# Altium footprint library RCDQLY.PCBLIB: 122 footprints (part 6 of 8)
Each footprint in its own frame and in the unit in brackets; x right, y up, seen from the top. Pads: shape width x height; smd on the part's side, far side on the other; paste and mask are expansions set on the pad; w line width, h text height; cw(c..) or ccw(c..) is an arc to the next point about the centre after c.
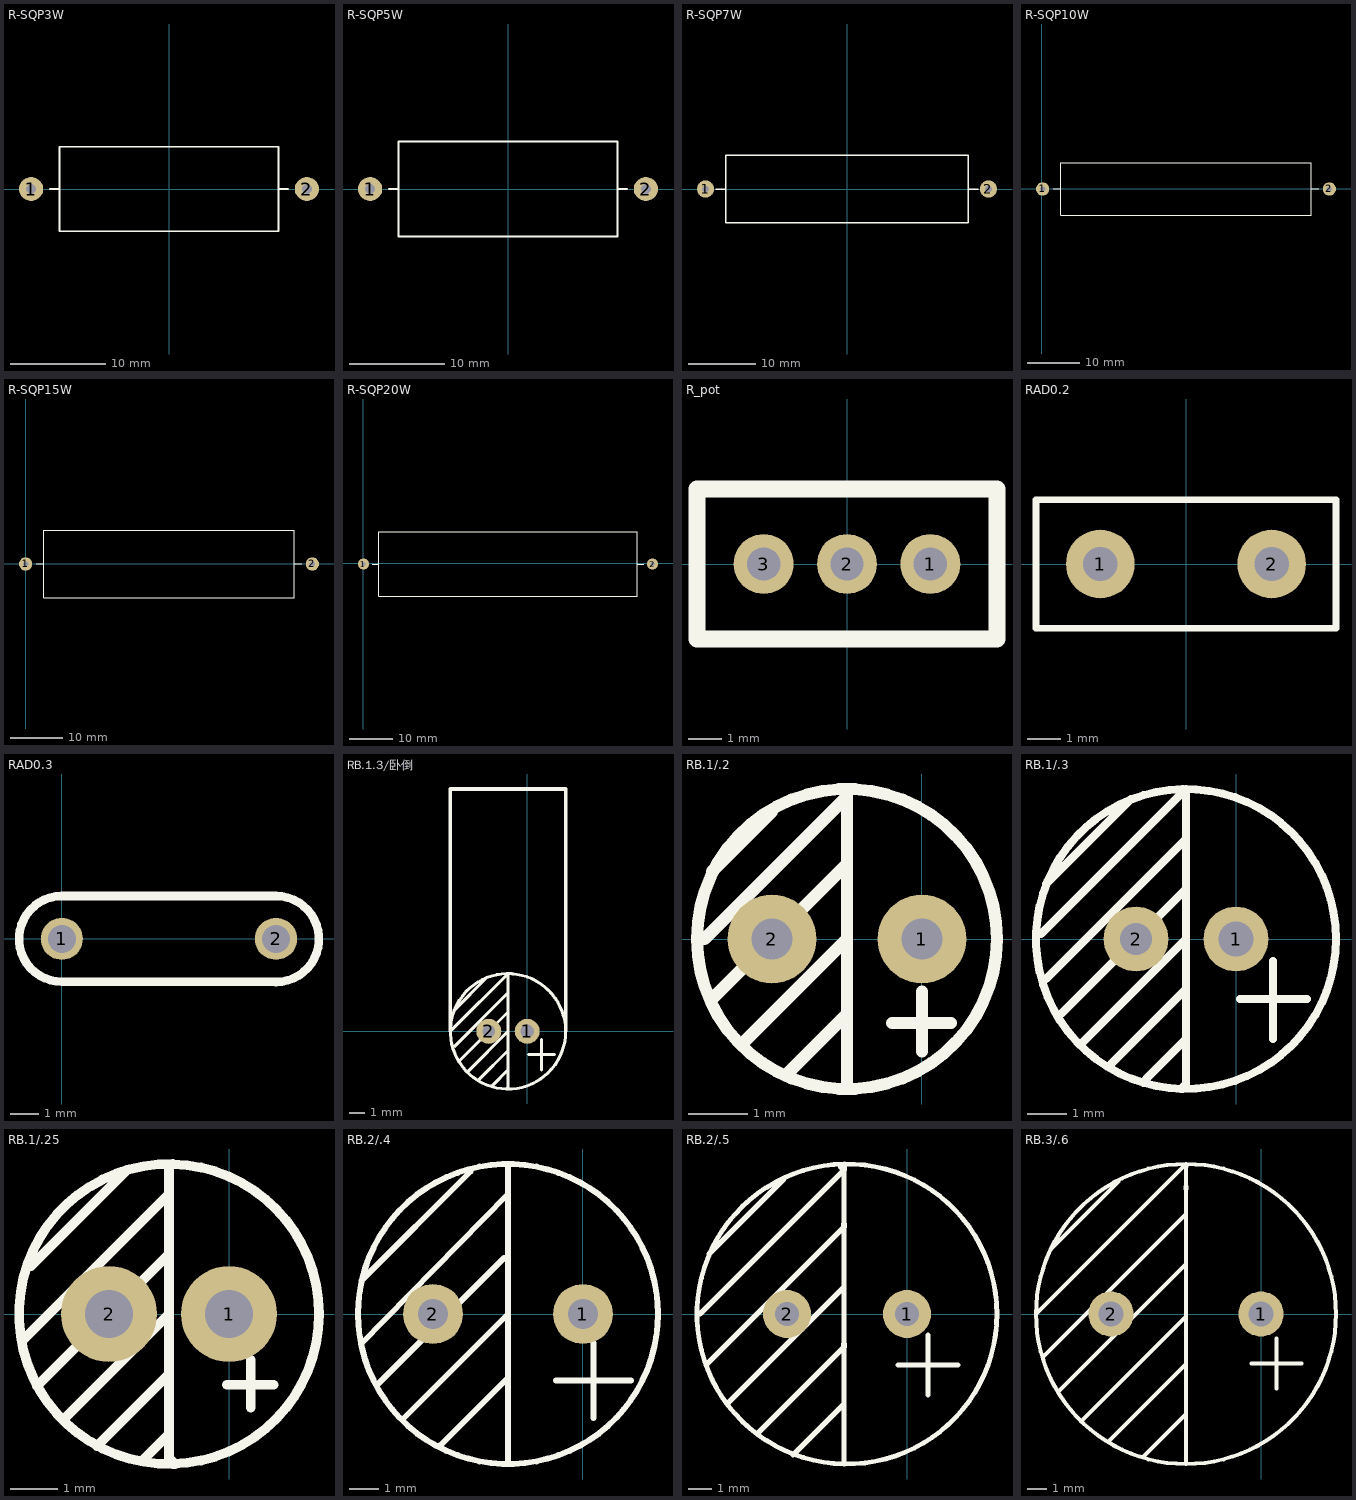
[diagram p5: the footprints below, top view; thin cyan lines are the x and y axes]

## R-SQP3W [mm]
pads (2):
  round 2.54 hole 1.016: 1(-14.5,0) 2(14.5,0)
TopOverlay:
  lines w0.203: -12.5,0 -11.5,0 ; 11.5,0 12.5,0 ; -11.5,-4.445 11.5,-4.445 11.5,4.445 -11.5,4.445 -11.5,-4.445

## R-SQP5W [mm]
pads (2):
  round 2.54 hole 1.016: 1(-14.5,0) 2(14.5,0)
TopOverlay:
  lines w0.203: -12.5,0 -11.5,0 ; 11.5,0 12.5,0 ; -11.5,-5 -11.5,5 11.5,5 11.5,-5 -11.5,-5

## R-SQP7W [mm]
pads (2):
  round 2.54 hole 1.016: 1(-21,0) 2(21,0)
TopOverlay:
  lines w0.203: -19.5,0 -18,0 ; 18,0 19.5,0 ; -18,-5 18,-5 18,5 -18,5 -18,-5

## R-SQP10W [mil]
pads (2):
  round 100 hole 40: 1(4.82,-2.5) 2(2170.18,-2.5)
TopOverlay:
  lines w8: 83.56,-2.5 142.62,-2.5 ; 2032.38,-2.5 2091.44,-2.5 ; 142.62,-199.35 142.62,194.35 2032.38,194.35 2032.38,-199.35 142.62,-199.35

## R-SQP15W [mil]
pads (2):
  round 100 hole 40: 1(-0.18,-2.5) 2(2165.18,-2.5)
TopOverlay:
  lines w8: 78.56,-2.5 137.62,-2.5 ; 2027.38,-2.5 2086.44,-2.5 ; 137.62,-258.41 137.62,253.41 2027.38,253.41 2027.38,-258.41 137.62,-258.41

## R-SQP20W [mil]
pads (2):
  round 100 hole 40: 1(3.6,-5) 2(2641.4,-5)
TopOverlay:
  lines w8: 82.34,-5 141.4,-5 ; 2503.6,-5 2562.66,-5 ; 141.4,-300.28 141.4,290.28 2503.6,290.28 2503.6,-300.28 141.4,-300.28

## R_pot [mm]
pads (3):
  round 1.8 hole 1: 1(2.5,0) 2(0,0) 3(-2.5,0)
TopOverlay:
  lines w0.5: -4.5,-2.25 4.5,-2.25 4.5,-0.5 4.5,2.25 -4.5,2.25 -4.5,-0.5 -4.5,-2.25

## RAD0.2 [mil]
pads (2):
  round 80 hole 40: 1(-100,0) 2(100,0)
TopOverlay:
  lines w8: -175,-75 175,-75 175,75 -175,75 -175,-75

## RAD0.3 [mm]
pads (2):
  round 1.5 hole 1: 1(0,0) 2(7.62,0)
TopOverlay:
  lines w0.305: 7.62,-1.536 ccw(c7.62,-0.006) 7.62,1.524 0,1.524 ccw(c0,0) 0,-1.524 7.62,-1.524

## RB.1.3/卧倒 [mil]
pads (2):
  round 65 hole 35: 1(0,0)
  round 65 hole 32: 2(-100,0)
TopOverlay:
  circle w8: c-50,0 r150
  lines w8: -195,5 -50,150 -50,-145 -55,-150 ; -190,-40 -50,100 ; -190,55 -105,140 ; -175,-75 -50,50 ; -155,-105 -50,0 ; -125,-125 -50,-50 ; -90,-140 -50,-100 ; 4,-60 71,-60 ; 37,-100 37,-22
  lines w10: -200,0 -200,630 100,630 100,0

## RB.1/.2 [mm]
pads (2):
  round 1.5 hole 0.7: 1(0,0) 2(-2.54,0)
TopOverlay:
  circle w0.203: c-1.27,0 r2.54
  lines w0.203: -3.683,0 -1.27,2.413 -1.27,-2.413 ; -3.556,-1.016 -1.27,1.27 ; -3.556,1.143 -2.54,2.159 ; -3.048,-1.778 -1.27,0 ; -2.286,-2.286 -1.27,-1.27 ; -0.508,-1.422 0.492,-1.422 ; 0,-1.905 0,-0.889

## RB.1/.3 [mil]
pads (2):
  round 65 hole 35: 1(0,0)
  round 65 hole 32: 2(-100,0)
TopOverlay:
  circle w8: c-50,0 r150
  lines w8: -195,5 -50,150 -50,-145 -55,-150 ; -190,-40 -50,100 ; -190,55 -105,140 ; -175,-75 -50,50 ; -155,-105 -50,0 ; -125,-125 -50,-50 ; -90,-140 -50,-100 ; 4,-60 71,-60 ; 37,-100 37,-22

## RB.1/.25 [mil]
pads (2):
  round 80 hole 40: 1(0,0) 2(-100,0)
TopOverlay:
  circle w8: c-50,0 r125
  lines w8: -170,-20 -50,100 ; -165,40 -85,120 ; -160,-60 -50,50 ; -135,-85 -50,0 ; -110,-110 -50,-50 ; -70,-120 -50,-100 -50,-105 ; -50,120 -50,-120 -45,-125 ; -2,-59 37.37,-59 ; 18,-78 18,-38

## RB.2/.4 [mil]
pads (2):
  round 80 hole 40: 1(0,0) 2(-200,0)
TopOverlay:
  circle w8: c-100,0 r200
  lines w8: -296,-40 -100,160 ; -295,45 -150,190 ; -275,-95 -105,75 -100,75 ; -240,-140 -100,0 ; -190,-175 -100,-85 ; -100,-200 -100,200 ; -36,-89 64,-89 ; 14,-139 14,-39

## RB.2/.5 [mil]
pads (2):
  round 80 hole 40: 1(0,0) 2(-200,0)
TopOverlay:
  circle w8: c-100,0 r250
  lines w8: -345,0 -105,240 ; -335,-85 -105,145 ; -330,100 -205,225 ; -300,-150 -105,45 ; -250,-200 -105,-55 ; -190,-235 -105,-150 ; -105,-250 -105,245 ; -15,-85 85,-85 ; 35,-135 35,-35
  lines w10: -110,245 -105,245 -105,240 ; -105,-55 -105,-50 ; -105,145 -105,150

## RB.3/.6 [mil]
pads (2):
  round 90 hole 50: 1(0,0) 2(-300,0)
TopOverlay:
  circle w8: c-150,0 r300
  lines w8: -450,0 -155,295 ; -435,-85 -150,200 ; -420,130 -285,265 ; -405,-155 -150,100 ; -360,-215 -150,-5 ; -305,-255 -150,-100 ; -235,-285 -150,-200 ; -150,-300 -150,295 ; -19,-99 81,-99 ; 31,-149 31,-49
  lines w10: -155,295 -150,295 ; -150,250 -150,255